# EAGLE library part 0813-1X1T-57-F (library con-belfuse)
0813-1X1T-57-F Power over Ethernet Single Port MagJack® 1CT : 1XT +- 2% 350uH MIN.
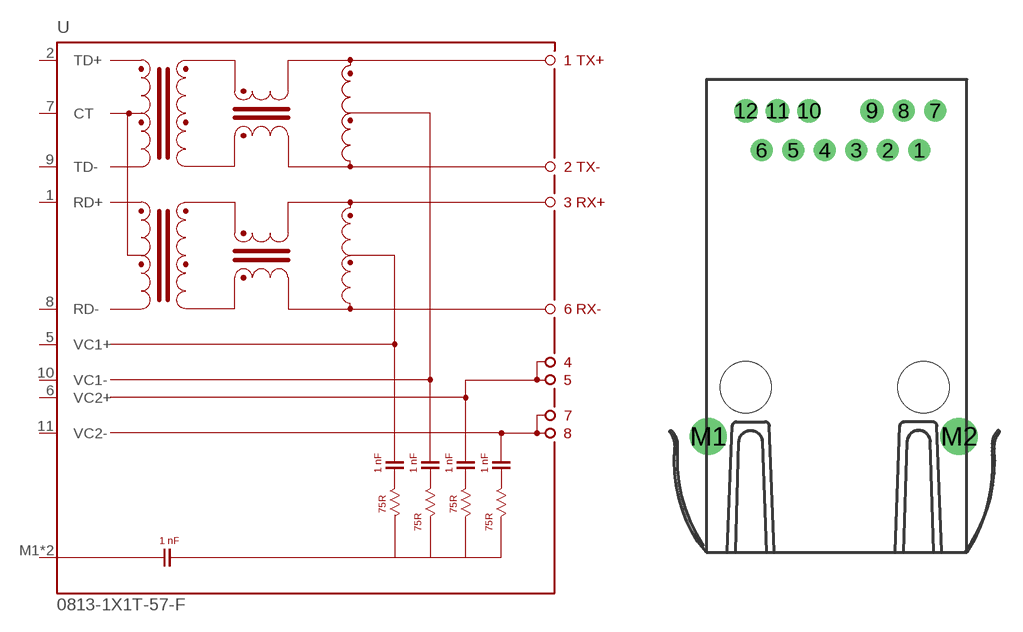
[diagram p0: symbol with the pads of J1; footprint J1]

Designator prefix -

## 0813-1X1T-57-F  [J1]
1  RD+  in
2  TD+  in
5  VC1+  in
6  VC2+  in
7  CT  in
8  RD-  in
9  TD-  in
10  VC1-  in
11  VC2-  in
M1  5  in
M2  5  in

## Footprint J1 (pad centres in mm)
PULSEJACK (TM) 1x1 Tab-UP RJ45 10/100 Base-TX RJ45 1x1 Tab-UP with LEDs 8-pin (J1 series) and 6-pin (JP series) integrated magnetics connector, designed to support applications, such as ADSL modems, LAN-on-Motherboard, and Hub and Switches. Source: www.pulseeng.com .. PulseJack-J402.pdf
drill 0.9 pad 1.3: 1 11.165,-2.54; 2 9.135,-2.54; 3 7.105,-2.54; 4 5.075,-2.54; 5 3.045,-2.54; 6 1.015,-2.54; 7 12.18,0; 8 10.15,0
drill 1 pad 1.422: 9 8.12,0; 10 4.06,0; 11 2.03,0; 12 0,0
drill 1.6 pad 2.184: M1 -2.419,-20.963; M2 13.712,-20.963
hole 3.3 at 11.425,-17.79
hole 3.3 at -0.005,-17.79